# Altium schematic symbol library Ethernet.SchLib: 3 symbols
Pins are listed as number, name and electrical type; pins without a type are passive.

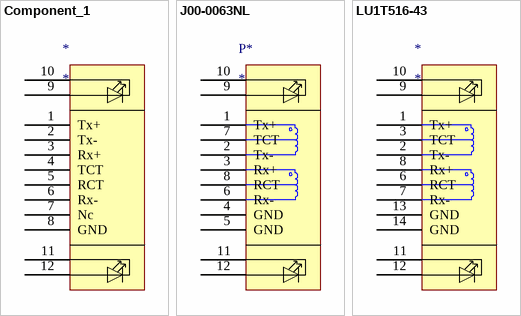
[diagram p0: symbols Component_1 to LU1T516-43]

## Component_1
designator *
footprint EthernetCON (Ethernet connector w/two LEDs)
pins: 1 Tx+, 2 Tx-, 3 Rx+, 4 TCT, 5 RCT, 6 Rx-, 7 Nc, 8 GND, 9, 10, 11, 12
1 alternate drawing of the same symbol

## J00-0063NL
designator P*
footprint EthernetCON (Ethernet connector w/two LEDs)
pins: 1 Tx+, 2 Tx-, 3 Rx+, 4 GND, 5 GND, 6 Rx-, 7 TCT, 8 RCT, 9, 10, 11, 12, 13 GND hidden to GND, 14 GND hidden to GND

## LU1T516-43
designator *
footprint EthernetCON (Ethernet connector w/two LEDs)
pins: 1 Tx+, 2 Tx-, 3 TCT, 6 RCT, 7 Rx-, 8 Rx+, 9, 10, 11, 12, 13 GND, 14 GND